# Altium footprint library Screw-M2.PcbLib: 49 footprints (part 4 of 4)
Each footprint in its own frame and in the unit in brackets; x right, y up, seen from the top. Pads: shape width x height; smd on the part's side, far side on the other; paste and mask are expansions set on the pad; w line width, h text height; cw(c..) or ccw(c..) is an arc to the next point about the centre after c.
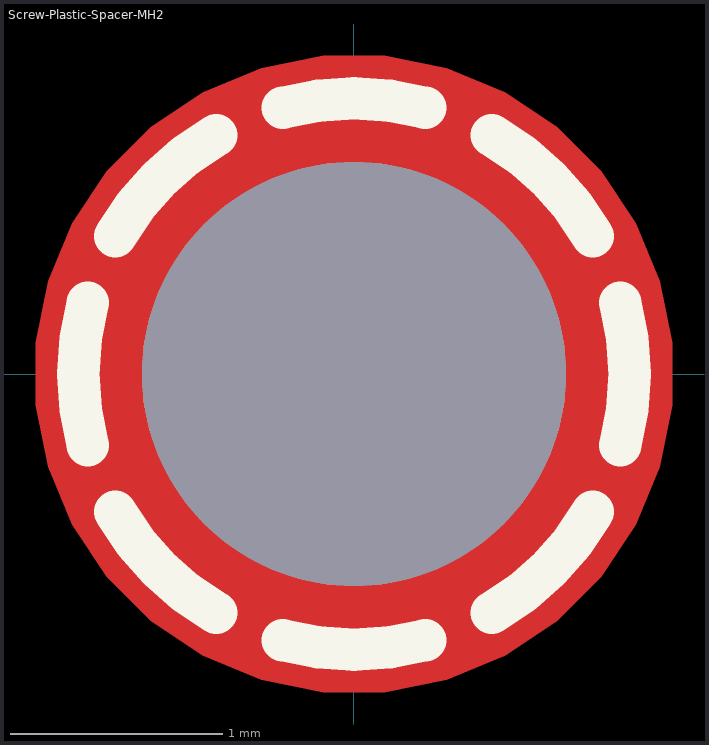
[diagram p3: the footprint, top view; thin cyan lines are the x and y axes]

## Screw-Plastic-Spacer-MH2 [mm] "Screw Plastic Spacer, hole diameter 2mm"
pads (1):
  round 2 hole 2 unplated mask+0.1: ""(0,0)
Top Layer:
  pour cut-out: 0,1.5 -0.148,1.5 -0.438,1.442 -0.711,1.329 -0.956,1.165 -1.165,0.956 -1.329,0.711 -1.442,0.438 -1.5,0.148 -1.5,0 -1.5,-0.148 -1.442,-0.437 -1.329,-0.71 -1.165,-0.956 -0.956,-1.165 -0.711,-1.329 -0.438,-1.442 -0.148,-1.5 0,-1.5 0.148,-1.5 0.438,-1.442 0.711,-1.329 0.956,-1.165 1.165,-0.956 1.329,-0.71 1.442,-0.437 1.5,-0.148 1.5,0 1.5,0.148 1.442,0.438 1.329,0.711 1.165,0.956 0.956,1.165 0.711,1.329 0.438,1.442 0.148,1.5
Top Overlay:
  lines w0.2: -1.256,-0.336 cw(c0,0) -1.256,0.336 ; -1.126,-0.65 ccw(c0,0) -0.65,-1.126 ; -1.126,0.65 cw(c0,0) -0.65,1.126 ; -0.336,-1.256 ccw(c0,0) 0.336,-1.256 ; -0.336,1.256 cw(c0,0) 0.336,1.256 ; 0.65,-1.126 ccw(c0,0) 1.126,-0.65 ; 0.65,1.126 cw(c0,0) 1.126,0.65 ; 1.256,-0.336 ccw(c0,0) 1.256,0.336